# Altium schematic symbol library STM32G431K8U6TR.SchLib: 1 symbol
Pins are listed as number, name and electrical type; pins without a type are passive.

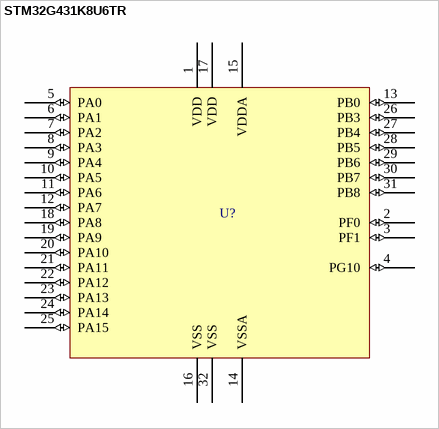
[diagram p0: symbol STM32G431K8U6TR]

## STM32G431K8U6TR
designator U?  (value not drawn)
Mainstream Arm Cortex-M4 MCU 170 MHz with 64 Kbytes of Flash memory, Math Accelerator, Medium Analog level integration
pins: 1 VDD (power), 2 PF0 (io), 3 PF1 (io), 4 PG10 (io), 5 PA0 (io), 6 PA1 (io), 7 PA2 (io), 8 PA3 (io), 9 PA4 (io), 10 PA5 (io), 11 PA6 (io), 12 PA7 (io), 13 PB0 (io), 14 VSSA (power), 15 VDDA (power), 16 VSS (power), 17 VDD (power), 18 PA8 (io), 19 PA9 (io), 20 PA10 (io), 21 PA11 (io), 22 PA12 (io), 23 PA13 (io), 24 PA14 (io), 25 PA15 (io), 26 PB3 (io), 27 PB4 (io), 28 PB5 (io), 29 PB6 (io), 30 PB7 (io), 31 PB8 (io), 32 VSS (power)